# EAGLE library part I__ADS7846 (library ..SMD)
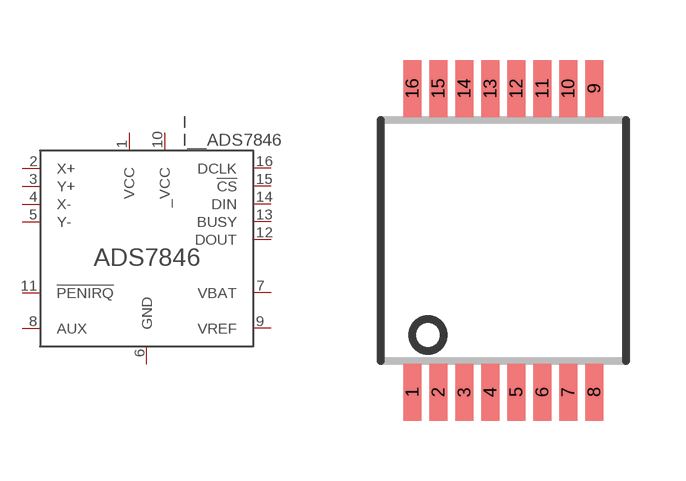
[diagram p304: symbol with the pads of SSOP16; footprint SSOP16]

Designator prefix I

## I__ADS7846  [SSOP16]
1  VCC
2  X+
3  Y+
4  X-
5  Y-
6  GND
7  VBAT
8  AUX
9  VREF
10  _VCC
11  !PENIRQ
12  DOUT
13  BUSY
14  DIN
15  !CS
16  DCLK

## Footprint SSOP16 (pad centres in mm)
smd 0.46 x 1.43: 1 1.535,-1.255; 2 2.185,-1.255; 3 2.835,-1.255; 4 3.485,-1.255; 5 4.135,-1.255; 6 4.785,-1.255; 7 5.435,-1.255; 8 6.085,-1.255; 9 6.085,6.335; 10 5.435,6.335; 11 4.785,6.335; 12 4.135,6.335; 13 3.485,6.335; 14 2.835,6.335; 15 2.185,6.335; 16 1.535,6.335